# EAGLE library part CAM-M8Q (library CAM-M8Q)
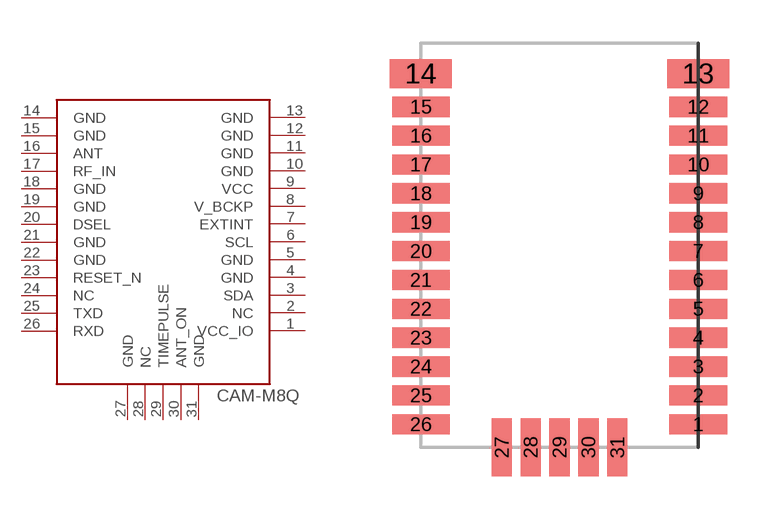
[diagram p0: symbol with the pads of CAM-M8Q; footprint CAM-M8Q]

Designator prefix U

## CAM-M8Q  [CAM-M8Q]
1  VCC_IO  pwr
2  NC  nc
3  SDA
4  GND  pwr
5  GND  pwr
6  SCL
7  EXTINT  pas
8  V_BCKP  pas
9  VCC  pwr
10  GND  pwr
11  GND  pwr
12  GND  pwr
13  GND  pwr
14  GND  pwr
15  GND  pwr
16  ANT
17  RF_IN  in
18  GND  pwr
19  GND  pwr
20  DSEL  pas
21  GND  pwr
22  GND  pwr
23  RESET_N  pas
24  NC  nc
25  TXD  out
26  RXD  in
27  GND  pwr
28  NC  nc
29  TIMEPULSE  out
30  ANT_ON
31  GND  pwr

## Footprint CAM-M8Q (pad centres in mm)
smd 2 x 0.7: 1 4.8,-6.2; 2 4.8,-5.2; 3 4.8,-4.2; 4 4.8,-3.2; 5 4.8,-2.2; 6 4.8,-1.2; 7 4.8,-0.2; 8 4.8,0.8; 9 4.8,1.8; 10 4.8,2.8; 11 4.8,3.8; 12 4.8,4.8; 15 -4.8,4.8; 16 -4.8,3.8; 17 -4.8,2.8; 18 -4.8,1.8; 19 -4.8,0.8; 20 -4.8,-0.2; 21 -4.8,-1.2; 22 -4.8,-2.2; 23 -4.8,-3.2; 24 -4.8,-4.2; 25 -4.8,-5.2; 26 -4.8,-6.2
smd 2.15 x 1: 13 4.8,5.95; 14 -4.8,5.95
smd 0.7 x 2: 27 -2,-7; 28 -1,-7; 29 0,-7; 30 1,-7; 31 2,-7